# Altium footprint library blackfin_pcblib.PcbLib: 59 footprints (part 1 of 4)
Each footprint in its own frame and in the unit in brackets; x right, y up, seen from the top. Pads: shape width x height; smd on the part's side, far side on the other; paste and mask are expansions set on the pad; w line width, h text height; cw(c..) or ccw(c..) is an arc to the next point about the centre after c.
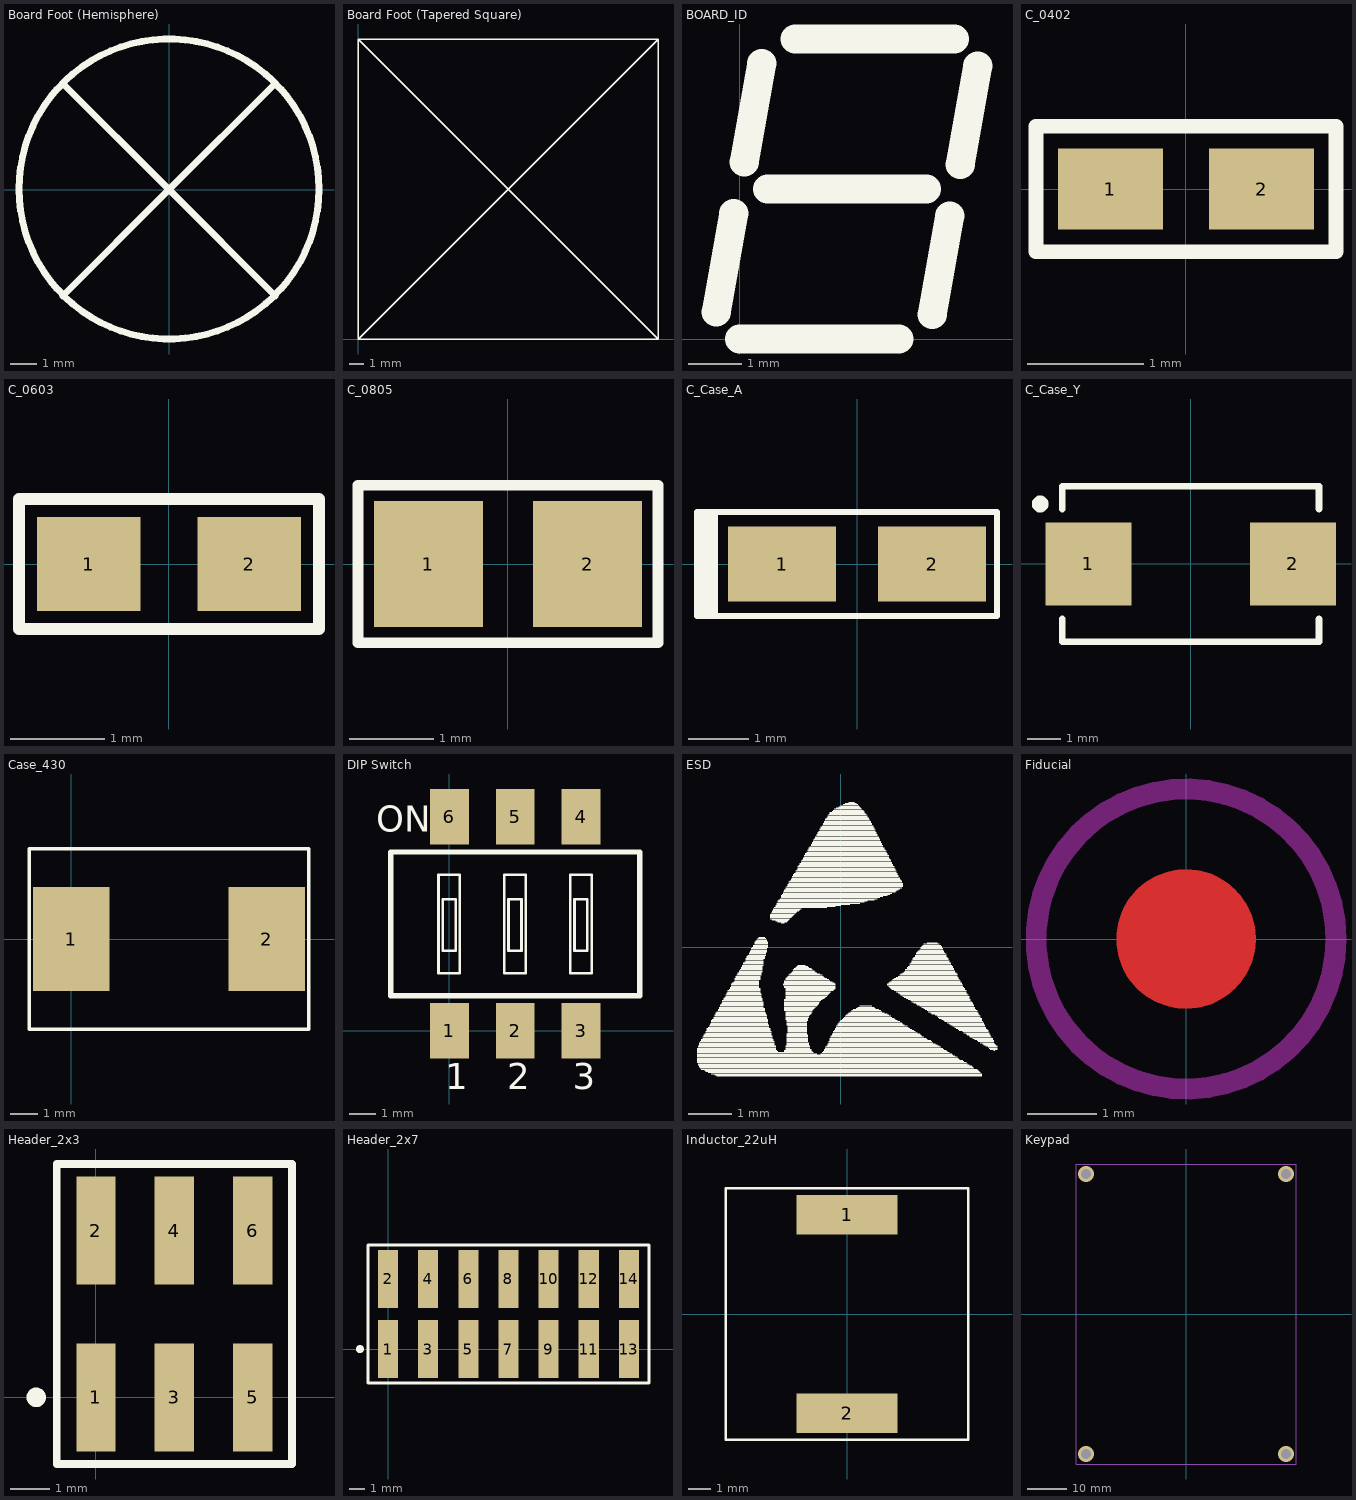
[diagram p0: the footprints below, top view; thin cyan lines are the x and y axes]

## Board Foot (Hemisphere) [mm] "Board Foot"
height 5
Top Overlay:
  circle w0.254: c0,0.025 r5.65
  lines w0.254: -4,-4 0,0 ; -4,4 0,0 ; 4,-4 0,0 ; 4,4 0,0

## Board Foot (Tapered Square) [mm] "Board Foot"
height 7.6
Top Overlay:
  lines w0.1: 0,0 0,20.5 ; 0,0 20.5,0 ; 0,0 20.5,20.5 ; 0,20.5 20.5,20.5 ; 0,20.5 20.5,0 ; 20.5,0 20.5,20.5

## BOARD_ID [mm] "BOARD_ID"
Top Overlay:
  lines w0.55: -0.437,0.508 -0.107,2.362 ; 0,0 3,0 ; 0.088,3.334 0.419,5.188 ; 0.525,2.826 3.525,2.826 ; 1.051,5.652 4.051,5.652 ; 3.632,0.464 3.962,2.318 ; 4.158,3.29 4.488,5.144

## C_0402 [mm]
pads (2):
  rect 0.9x0.7 smd: 1(-0.65,0) 2(0.65,0)
Top Overlay:
  lines w0.127: -1.29,-0.54 1.291,-0.54 1.291,0.54 -1.29,0.54 -1.29,-0.54

## C_0603 [mm]
pads (2):
  rect 1.1x1 smd: 1(-0.85,0) 2(0.85,0)
Top Overlay:
  lines w0.127: -1.59,-0.69 1.59,-0.69 1.59,0.69 -1.59,0.69 -1.59,-0.69

## C_0805 [mm]
pads (2):
  rect 1.3x1.5 smd: 1(-0.95,0) 2(0.95,0)
Top Overlay:
  lines w0.127: -1.79,-0.94 -1.79,0.94 1.79,0.94 1.79,-0.94 -1.79,-0.94

## C_Case_A [mm]
height 1.8
pads (2):
  rect 1.8x1.25 smd: 1(-1.25,0) 2(1.25,0)
Top Overlay:
  rectangle: -2.667,-0.9 -2.317,0.9
  lines w0.1: -2.667,-0.864 2.331,-0.864 2.331,0.864 -2.667,0.864 -2.667,-0.864

## C_Case_Y [mm] "T520Y477M006ATE015"
height 4
pads (2):
  rect 2.55x2.45 smd: 1(-3.025,0) 2(3.025,0)
Top Overlay:
  circle w0.25: c-4.45,1.775 r0.125
  lines w0.2: -3.8,-1.625 -3.8,-2.3 3.8,-2.3 3.8,-1.625 ; -3.8,1.625 -3.8,2.3 3.8,2.3 3.8,1.625

## Case_430 [mil] "MBRS330T3G"
pads (2):
  rect 110x150 smd: 1(0,0) 2(281,0)
Top Overlay:
  lines w5: -60,-130 341,-130 341,130 -60,130 -60,-130

## DIP Switch [mm]
pads (6):
  rect 1.5x2.15 smd mask+0.076: 1(0,0) 2(2.54,0) 3(5.08,0) 4(5.08,8.25) 5(2.54,8.25) 6(0,8.25)
Top Overlay:
  lines w0.1: -0.419,2.21 -0.419,6.02 0.406,6.02 0.406,2.21 -0.419,2.21 ; -0.253,3.078 0.247,3.078 0.247,5.078 -0.253,5.078 -0.253,3.078 ; 2.121,2.21 2.121,6.02 2.946,6.02 2.946,2.21 2.121,2.21 ; 2.28,3.078 2.28,5.078 2.78,5.078 2.78,3.078 2.28,3.078 ; 4.661,2.21 5.486,2.21 5.486,6.02 4.661,6.02 4.661,2.21 ; 4.824,3.078 4.824,5.078 5.324,5.078 5.324,3.078 4.824,3.078
  lines w0.2: -2.26,1.35 7.34,1.35 7.34,6.9 -2.26,6.9 -2.26,1.35
  text "ON" at -2.819,7.671 h1
  text "1" at -0.165,-2.248 h1
  text "2" at 2.222,-2.248 h1
  text "3" at 4.763,-2.248 h1

## ESD [mm]
Top Overlay:
  drawing of 457 lines, arcs and shapes, not listed

## Fiducial [mm] "Fiducial"
Top Layer:
  circle w1: c0,0 r0.5
Top Layer keep-out:
  circle w0.3: c0,0 r2.15
Top Paste:
  circle w1: c0,0 r0.5
Top Solder:
  circle w3.39: c0,0 r0.3

## Header_2x3 [mm] "RS-232 Connector"
height 6.5
pads (6):
  rect 1x2.75 smd: 1(0,0) 2(0,4.25) 3(2,0) 4(2,4.25) 5(4,0) 6(4,4.25)
Top Overlay:
  circle w0.25: c-1.522,0 r0.125
  lines w0.2: -1,-1.7 5,-1.7 5,5.95 -1,5.95 -1,-1.7

## Header_2x7 [mm] "JTAG Connector"
pads (14):
  rect 1.27x3.68 smd: 1(0,0) 2(0,4.44) 3(2.54,0) 4(2.54,4.44) 5(5.08,0) 6(5.08,4.44) 7(7.62,0) 8(7.62,4.44) 9(10.16,0) 10(10.16,4.44) 11(12.7,0) 12(12.7,4.44) 13(15.24,0) 14(15.24,4.44)
Top Overlay:
  circle w0.25: c-1.776,0 r0.125
  lines w0.2: -1.27,-2.15 16.51,-2.15 16.51,6.59 -1.27,6.59 -1.27,-2.15

## Inductor_22uH [mm] "744066220"
pads (2):
  rect 4.6x1.8 smd: 1(0,4.5) 2(0,-4.5)
Top Overlay:
  lines w0.127: -5.5,-5.7 5.5,-5.7 5.5,5.7 -5.5,5.7 -5.5,-5.7

## Keypad [mm] "Keypad"
height 35
via 25.4,35.56 diameter 4 hole 2.5
via -25.4,35.56 diameter 4 hole 2.5
via -25.4,-35.56 diameter 4 hole 2.5
via 25.4,-35.56 diameter 4 hole 2.5
Mechanical 1:
  lines w0.2: -27.94,-38.1 27.94,-38.1 27.94,38.1 -27.94,38.1 -27.94,-38.1
3D body: height 35, standoff 25, extent -28.04,-38.2 28.04,38.2